# Altium footprint library Device.PcbLib: 66 footprints (part 3 of 5)
Each footprint in its own frame and in the unit in brackets; x right, y up, seen from the top. Pads: shape width x height; smd on the part's side, far side on the other; paste and mask are expansions set on the pad; w line width, h text height; cw(c..) or ccw(c..) is an arc to the next point about the centre after c.
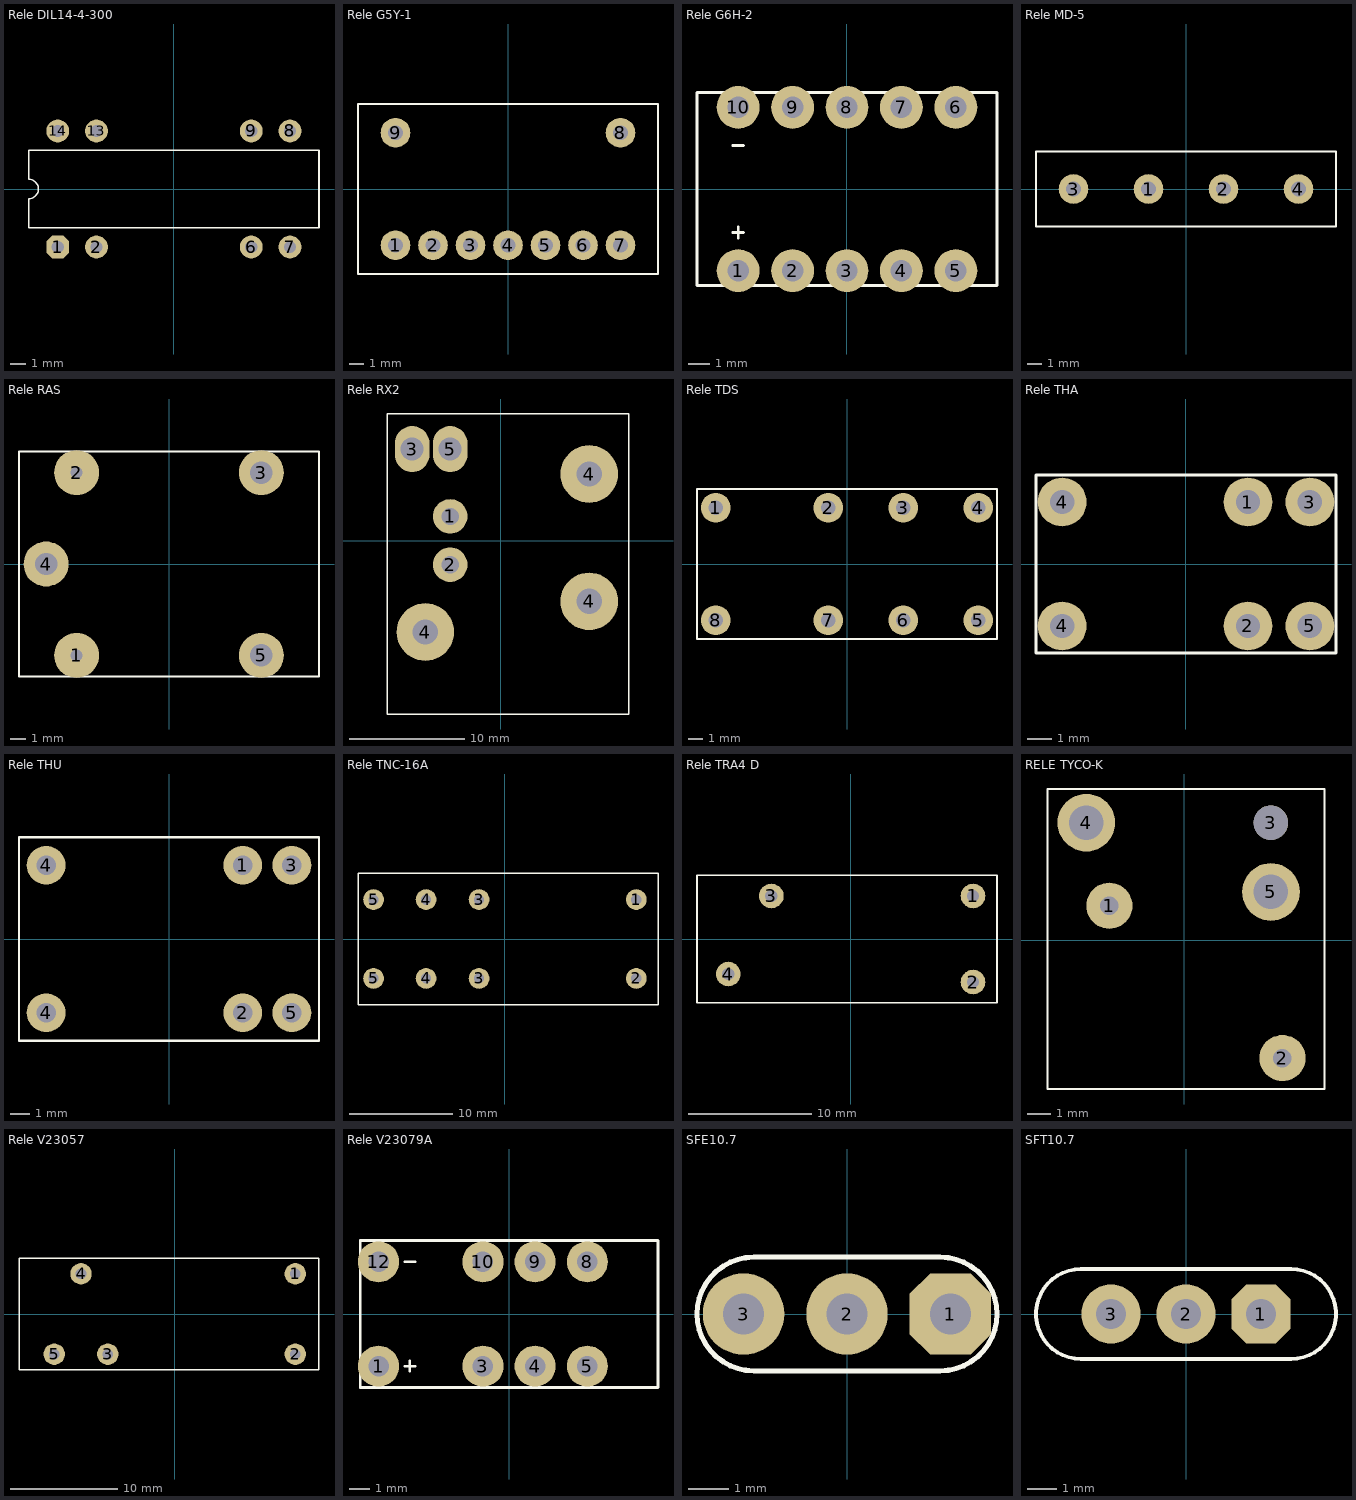
[diagram p2: the footprints below, top view; thin cyan lines are the x and y axes]

## Rele DIL14-4-300 [mm]
pads (8):
  oct 1.5x1.5 hole 0.8: 1(-7.617,-3.806)
  round 1.5 hole 0.8: 2(-5.077,-3.806) 6(5.083,-3.806) 7(7.623,-3.806) 8(7.623,3.814) 9(5.083,3.814) 13(-5.077,3.814) 14(-7.617,3.814)
Top Overlay:
  lines w0.1: -9.522,-2.536 9.528,-2.536 9.528,2.544 -9.522,2.544 -9.522,0.639 cw(c-9.522,0.004) -9.522,-0.631 -9.522,-2.536
3D body: height 3.88, standoff -2.5, extent -9.496,-3.96 9.504,3.96

## Rele G5Y-1 [mm]
pads (9):
  round 2 hole 1: 1(-7.62,-3.81) 2(-5.08,-3.81) 3(-2.54,-3.81) 4(0,-3.81) 5(2.54,-3.81) 6(5.08,-3.81) 7(7.62,-3.81) 8(7.62,3.81) 9(-7.62,3.81)
Top Overlay:
  lines w0.127: -10.16,-5.75 10.16,-5.75 10.16,5.75 -10.16,5.75 -10.16,-5.75
3D body: height 9.1, standoff -2.5, extent -10.16,-5.75 10.16,5.75

## Rele G6H-2 [mm]
pads (10):
  round 2 hole 1: 1(-5.08,-3.81) 2(-2.54,-3.81) 3(0,-3.81) 4(2.54,-3.81) 5(5.08,-3.81) 6(5.08,3.81) 7(2.54,3.81) 8(0,3.81) 9(-2.54,3.81) 10(-5.08,3.81)
Top Overlay:
  lines w0.127: -5.334,-2.032 -4.826,-2.032 ; -5.334,2.032 -4.826,2.032 ; -5.08,-2.286 -5.08,-1.778 ; -7,-4.5 7,-4.5 7,4.5 -7,4.5 -7,-4.5
3D body: height 5.3, standoff -2.21, extent -7,-4.5 7,4.5

## Rele MD-5 [mm]
pads (4):
  round 2 hole 1: 1(-2.54,0) 2(2.54,0) 3(-7.62,0) 4(7.62,0)
Top Overlay:
  lines w0.127: -10.16,-2.54 -10.16,2.54 10.16,2.54 10.16,-2.54 -10.16,-2.54
3D body: height 7.62, standoff 0, extent -10.16,-2.54 10.16,2.54

## Rele RAS [mm]
pads (5):
  round 3 hole 0.8: 1(-6.159,-6.096) 2(-6.159,6.096)
  round 3 hole 1.5: 3(6.159,6.096) 4(-8.191,0) 5(6.159,-6.096)
Top Overlay:
  lines w0.127: -10,-7.5 -10,7.5 10,7.5 10,-7.5 -10,-7.5
3D body: height 15.25, standoff 0, extent -10,-7.5 10,7.5

## Rele RX2 [mm]
pads (7):
  round 3 hole 1.5: 1(-4.381,2.095) 2(-4.381,-2.095)
  oval 3x4 hole 2: 3(-7.683,7.938) 5(-4.381,7.938)
  round 5 hole 2.2: 4(-6.54,-7.938) 4(7.683,-5.271) 4(7.683,5.779)
Top Overlay:
  lines w0.127: -9.842,-15.05 -9.842,10.986 11.112,10.986 11.112,-15.05 -9.842,-15.05
3D body: height 21, standoff 0, extent -9.75,-15 11,11

## Rele TDS [mm]
pads (8):
  round 2 hole 1: 1(-8.89,3.81) 2(-1.27,3.81) 3(3.81,3.81) 4(8.89,3.81) 5(8.89,-3.81) 6(3.81,-3.81) 7(-1.27,-3.81) 8(-8.89,-3.81)
Top Overlay:
  lines w0.127: -10.16,-5.08 10.16,-5.08 10.16,5.08 -10.16,5.08 -10.16,-5.08
3D body: height 12, standoff 0, extent -10.16,-5.08 10.16,5.08

## Rele THA [mm]
pads (6):
  round 2 hole 1: 1(2.54,2.54) 2(2.54,-2.54) 3(5.08,2.54) 4(-5.08,-2.54) 4(-5.08,2.54) 5(5.08,-2.54)
Top Overlay:
  lines w0.127: -6.15,-3.65 6.15,-3.65 6.15,3.65 -6.15,3.65 -6.15,-3.65
3D body: height 9.5, standoff -2.5, extent -6.15,-3.65 6.15,3.65

## Rele THU [mm]
pads (6):
  round 2 hole 1: 1(3.81,3.81) 2(3.81,-3.81) 3(6.35,3.81) 4(-6.35,-3.81) 4(-6.35,3.81) 5(6.35,-3.81)
Top Overlay:
  lines w0.127: -7.75,-5.25 7.75,-5.25 7.75,5.25 -7.75,5.25 -7.75,-5.25
3D body: height 10, standoff 0, extent -7.75,-5.25 7.75,5.25

## Rele TNC-16A [mm]
pads (8):
  round 2 hole 1: 1(12.7,3.81) 2(12.7,-3.81) 3(-2.5,-3.81) 3(-2.5,3.81) 4(-7.62,-3.81) 4(-7.62,3.81) 5(-12.7,-3.81) 5(-12.7,3.81)
Top Overlay:
  lines w0.127: -14.2,-6.35 -14.2,6.35 14.8,6.35 14.8,-6.35 -14.2,-6.35
3D body: height 15.7, standoff 0, extent -14.195,-6.35 14.81,6.343

## Rele TRA4 D [mm]
pads (4):
  round 2 hole 1: 1(9.95,3.5) 2(9.95,-3.5) 3(-6.45,3.5) 4(-9.95,-2.85)
Top Overlay:
  lines w0.127: -12.5,-5.2 11.9,-5.2 11.9,5.2 -12.5,5.2 -12.5,-5.2
3D body: height 25, standoff 0, extent -12.5,-5.2 11.9,5.2

## RELE TYCO-K [mm]
pads (5):
  round 2 hole 0.8: 1(-3.25,1.5) 2(4.25,-5.1)
  round 1.5 hole 1.5: 3(3.75,5.1)
  round 2.5 hole 1.5: 4(-4.25,5.1) 5(3.75,2.1)
Top Overlay:
  lines w0.1: -5.93,-6.44 -5.93,6.56 6.07,6.56 6.07,-6.44 -5.93,-6.44
3D body: height 10, standoff -2.7, extent -5.93,-6.44 6.07,6.56

## Rele V23057 [mm]
pads (5):
  round 2 hole 1: 1(11.25,3.75) 2(11.25,-3.75) 3(-6.25,-3.75) 4(-8.75,3.75) 5(-11.25,-3.75)
Top Overlay:
  lines w0.127: -14.54,-5.2 13.46,-5.2 13.46,5.2 -14.54,5.2 -14.54,-5.2
3D body: height 25, standoff 0, extent -14.54,-5.2 13.46,5.2

## Rele V23079A [mm]
pads (8):
  round 2 hole 1: 1(-6.35,-2.54) 3(-1.27,-2.54) 4(1.27,-2.54) 5(3.81,-2.54) 8(3.81,2.54) 9(1.27,2.54) 10(-1.27,2.54) 12(-6.35,2.54)
Top Overlay:
  lines w0.127: -5.08,-2.54 -4.572,-2.54 ; -5.08,2.54 -4.572,2.54 ; -4.826,-2.794 -4.826,-2.286 ; -7.25,-3.575 7.25,-3.575 7.25,3.575 -7.25,3.575 -7.25,-3.575
3D body: height 9.5, standoff -2.5, extent -7.25,-3.575 7.25,3.575

## SFE10.7 [mm]
pads (3):
  oct 2x2 hole 1: 1(2.54,0)
  round 2 hole 1: 2(0,0) 3(-2.54,0)
Top Overlay:
  lines w0.127: -2.286,-1.397 cw(c-2.286,0) -2.286,1.397 2.286,1.397 cw(c2.286,0) 2.286,-1.397 -2.286,-1.397
3D body: height 7.75, standoff -2.5, extent -3.75,-1.483 3.75,1.483

## SFT10.7 [mm]
pads (3):
  oct 2x2 hole 1: 1(2.54,0)
  round 2 hole 1: 2(0,0) 3(-2.54,0)
Top Overlay:
  lines w0.127: -3.556,-1.524 cw(c-3.556,0) -3.556,1.524 3.556,1.524 cw(c3.556,0) 3.556,-1.524 -3.556,-1.524
3D body: height 7.75, standoff -2.5, extent -4.75,-1.483 4.75,1.483